# Altium schematic symbol library KGM15BR71E104KT.SchLib: 1 symbol
Pins are listed as number, name and electrical type; pins without a type are passive.

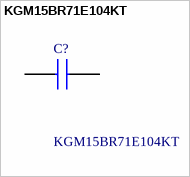
[diagram p0: symbol KGM15BR71E104KT]

## KGM15BR71E104KT
designator C?
0603 25 V X7R 100nF +/-10%; Manufacturer_Name: Kyocera AVX; Geometry.Height: 0.95mm; Manufacturer_Part_Number: KGM15BR71E104KT; Mouser Part Number: 581-KGM15BR71E104KT; Mouser Price/Stock: https://www.mouser.co.uk/ProductDetail/KYOCERA-AVX/KGM15BR71E104KT?qs=Jm2GQyTW%2FbiCo%2Fby4Q068Q%3D%3D; Arrow Part Number: KGM15BR71E104KT; Arrow Price/Stock: https://www.arrow.com/en/products/kgm15br71e104kt/avx?utm_currency=USD&region=europe; Datasheet Link: https://spicat.kyocera-avx.com/product/mlcc/chartview/KGM15BR71E104KT
footprint CAPC1608X95N
pins: 1, 2